# Altium footprint library Relay_THT.PcbLib: 117 footprints (part 1 of 8)
Each footprint in its own frame and in the unit in brackets; x right, y up, seen from the top. Pads: shape width x height; smd on the part's side, far side on the other; paste and mask are expansions set on the pad; w line width, h text height; cw(c..) or ccw(c..) is an arc to the next point about the centre after c.
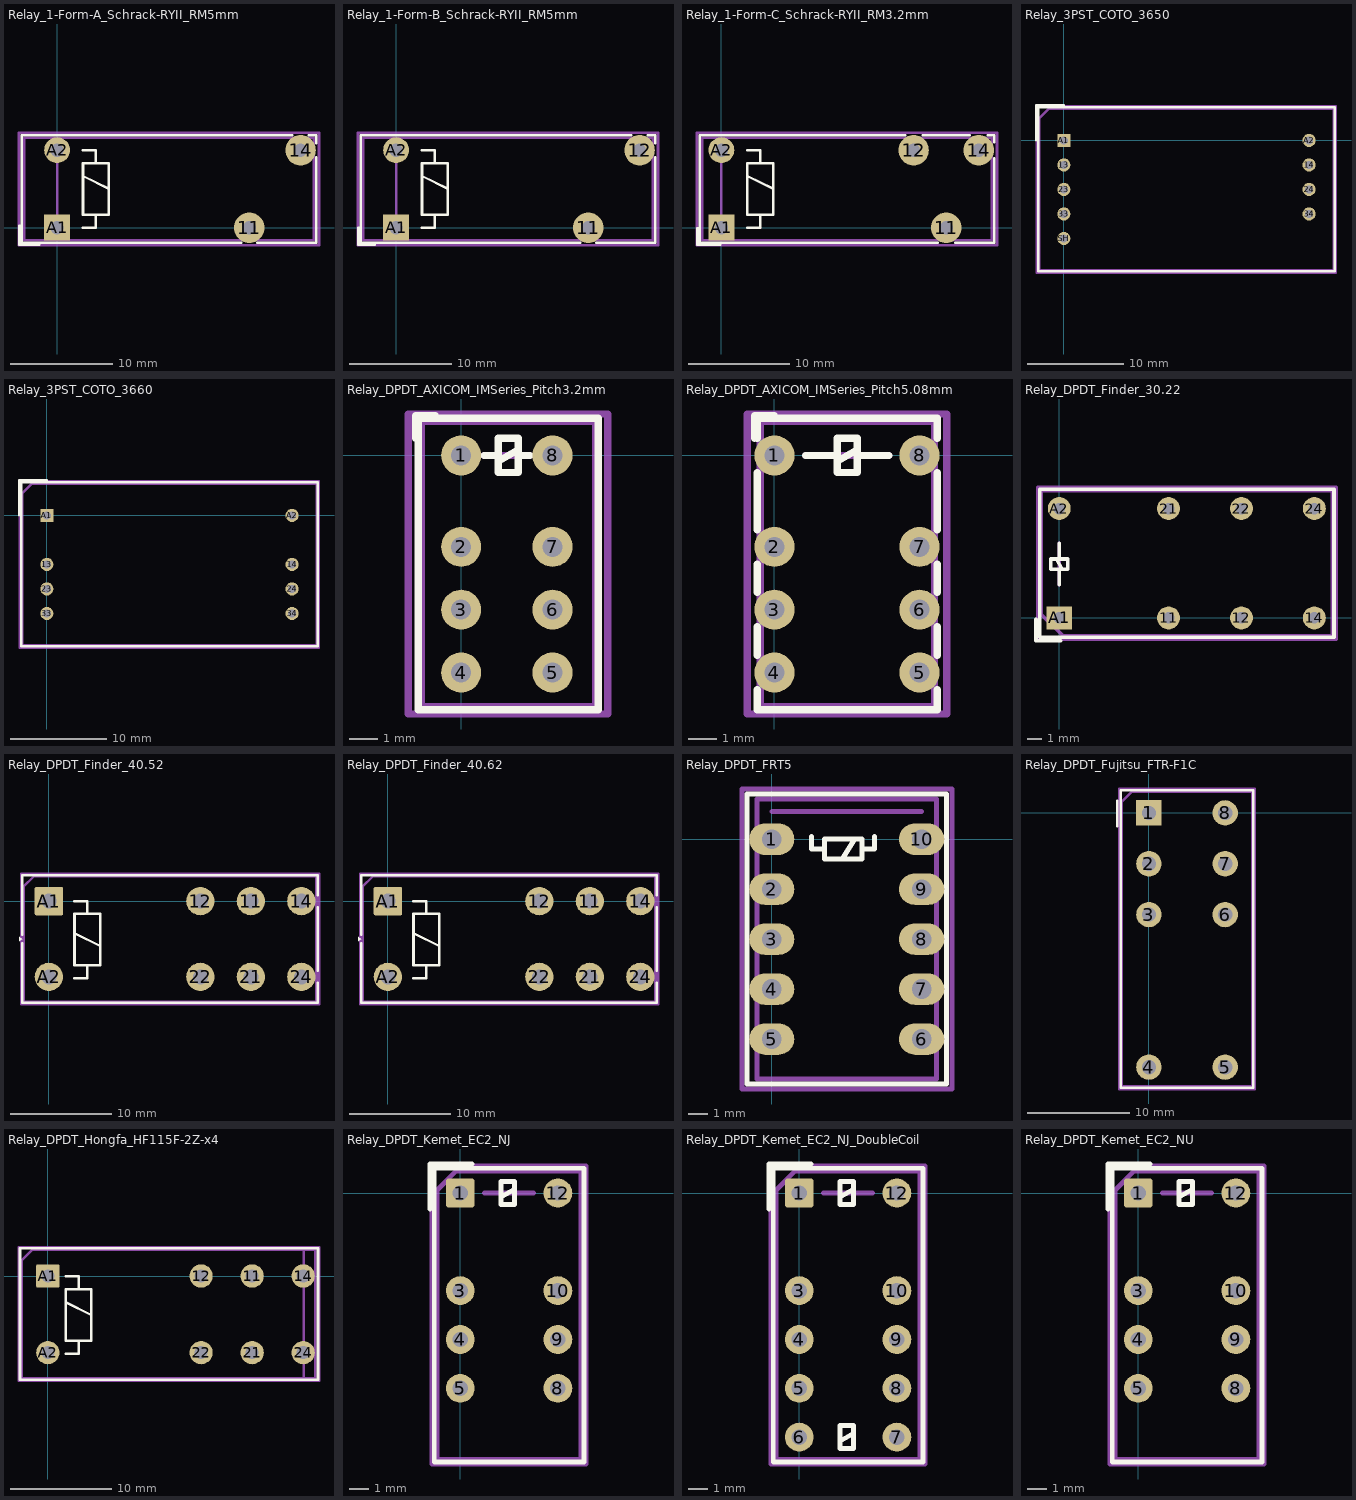
[diagram p0: the footprints below, top view; thin cyan lines are the x and y axes]

## Relay_1-Form-A_Schrack-RYII_RM5mm [mm]
pads (4):
  round 3 hole 1.3: 11(18.9,0) 14(23.94,7.62)
  rect 2.54x2.54 hole 1.3: A1(0,0)
  round 2.54 hole 1.3: A2(0,7.62)
F.SilkS:
  lines w0.254: -3.7,0.2 -3.7,-1.7 -1.75,-1.7 ; 2.54,0 3.81,0 3.81,1.27 ; 2.54,5.08 5.08,3.81 ; 2.54,7.62 3.81,7.62 3.81,6.35 ; 18.1,-1.5 -3.5,-1.5 -3.5,9.1 23.1,9.1 ; 19.7,-1.5 25.45,-1.5 ; 24.75,9.1 25.5,9.1 25.5,8.3 ; 25.5,-1.5 25.5,6.9 ; 3.81,6.35 2.54,6.35 2.54,1.27 5.08,1.27 5.08,6.35 3.81,6.35
F.Fab:
  lines w0.254: 0,1.2 0,6.4 ; -3.25,-1.25 -3.25,8.85 25.25,8.85 25.25,-1.25 -3.25,-1.25
  text "'.Designator'" at 6.953,2.96 h1
F.CrtYd:
  lines w0.254: -3.75,-1.75 -3.75,9.35 25.75,9.35 25.75,-1.75 -3.75,-1.75
3D body "Relay_1-Form-A_Schrack-RYII_RM5mm.step": height 12.3, standoff -5.3, extent -3.25,-1.24 25.25,8.86

## Relay_1-Form-B_Schrack-RYII_RM5mm [mm]
pads (4):
  round 3 hole 1.3: 11(18.9,0) 12(23.94,7.62)
  rect 2.54x2.54 hole 1.3: A1(0,0)
  round 2.54 hole 1.3: A2(0,7.62)
F.SilkS:
  lines w0.254: -3.7,0 -3.7,-1.7 -2.1,-1.7 ; 2.54,0 3.81,0 3.81,1.27 ; 2.54,5.08 5.08,3.81 ; 2.54,7.62 3.81,7.62 3.81,6.35 ; 18.1,-1.5 -3.5,-1.5 -3.5,9.1 23.1,9.1 ; 19.7,-1.5 25.45,-1.5 ; 24.75,9.1 25.5,9.1 25.5,8.3 ; 25.5,-1.5 25.5,6.9 ; 3.81,6.35 2.54,6.35 2.54,1.27 5.08,1.27 5.08,6.35 3.81,6.35
F.Fab:
  lines w0.254: 0,1.2 0,6.4 ; -3.25,-1.25 -3.25,8.85 25.25,8.85 25.25,-1.25 -3.25,-1.25
  text "'.Designator'" at 6.953,2.96 h1
F.CrtYd:
  lines w0.254: -3.75,-1.75 -3.75,9.35 25.75,9.35 25.75,-1.75 -3.75,-1.75
3D body "Relay_1-Form-B_Schrack-RYII_RM5mm.step": height 12.3, standoff -5.3, extent -3.25,-1.24 25.25,8.86

## Relay_1-Form-C_Schrack-RYII_RM3.2mm [mm]
pads (5):
  round 3 hole 1.3: 11(22.1,0) 12(18.9,7.62) 14(25.3,7.62)
  rect 2.54x2.54 hole 1.3: A1(0,0)
  round 2.54 hole 1.3: A2(0,7.62)
F.SilkS:
  lines w0.254: -2.35,-0.05 -2.35,-1.7 -0.1,-1.7 ; 2.54,0 3.81,0 3.81,1.27 ; 2.54,5.08 5.08,3.81 ; 2.54,7.62 3.81,7.62 3.81,6.35 ; 18.05,9.1 -2.15,9.1 -2.15,-1.5 21.25,-1.5 ; 19.8,9.1 24.4,9.1 ; 23,-1.5 26.85,-1.5 26.85,6.8 ; 26.2,9.1 26.85,9.1 26.85,8.4 ; 3.81,6.35 2.54,6.35 2.54,1.27 5.08,1.27 5.08,6.35 3.81,6.35
F.Fab:
  lines w0.254: 0,1.2 0,6.4 ; -1.9,-1.25 -1.9,8.85 26.6,8.85 26.6,-1.25 -1.9,-1.25
  text "'.Designator'" at 8.303,2.96 h1
F.CrtYd:
  lines w0.254: -2.4,-1.75 -2.4,9.35 27.1,9.35 27.1,-1.75 -2.4,-1.75
3D body "Relay_1-Form-C_Schrack-RYII_RM3.2mm.step": height 12.3, standoff -5.3, extent -1.9,-1.24 26.6,8.86

## Relay_3PST_COTO_3650 [mm]
pads (9):
  round 1.36 hole 0.86: 13(0,-2.54) 14(25.4,-2.54) 23(0,-5.08) 24(25.4,-5.08) 33(0,-7.62) 34(25.4,-7.62) A2(25.4,0) SH(0,-10.16)
  rect 1.36x1.36 hole 0.86: A1(0,0)
F.SilkS:
  lines w0.254: -2.89,0 -2.89,3.652 0,3.652 ; -2.65,-13.572 -2.65,3.412 28.05,3.412 28.05,-13.572 -2.65,-13.572
F.Fab:
  lines w0.254: -2.54,-13.462 -2.54,2.302 -1.54,3.302 27.94,3.302 27.94,-13.462 -2.54,-13.462
  text "'.Designator'" at 8.653,-6.555 h1
F.CrtYd:
  lines w0.254: -2.79,-13.72 -2.79,3.56 28.19,3.56 28.19,-13.72 -2.79,-13.72
3D body "Relay_3PST_COTO_3650.step": height 12.06, standoff -2.92, extent -2.54,-13.462 27.94,3.302

## Relay_3PST_COTO_3660 [mm]
pads (8):
  round 1.36 hole 0.86: 13(0,-5.08) 14(25.4,-5.08) 23(0,-7.62) 24(25.4,-7.62) 33(0,-10.16) 34(25.4,-10.16) A2(25.4,0)
  rect 1.36x1.36 hole 0.86: A1(0,0)
F.SilkS:
  lines w0.254: -2.89,0 -2.89,3.652 0,3.652 ; -2.65,-13.572 -2.65,3.412 28.05,3.412 28.05,-13.572 -2.65,-13.572
F.Fab:
  lines w0.254: -2.54,-13.462 -2.54,2.302 -1.54,3.302 27.94,3.302 27.94,-13.462 -2.54,-13.462
  text "'.Designator'" at 8.653,-6.555 h1
F.CrtYd:
  lines w0.254: -2.79,-13.72 -2.79,3.56 28.19,3.56 28.19,-13.72 -2.79,-13.72
3D body "Relay_3PST_COTO_3660.step": height 12.06, standoff -2.92, extent -2.54,-13.462 27.94,3.302

## Relay_DPDT_AXICOM_IMSeries_Pitch3.2mm [mm]
pads (8):
  round 1.4 hole 0.7: 1(0,0) 2(0,-3.2) 3(0,-5.4) 4(0,-7.6) 5(3.2,-7.6) 6(3.2,-5.4) 7(3.2,-3.2) 8(3.2,0)
F.SilkS:
  lines w0.254: -1.6,0.6 -1.6,1.4 -0.9,1.4 ; 0.8,0 1.3,0 ; 1.3,-0.2 2,0.2 ; 2,0 2.4,0 ; -1.5,-8.9 4.8,-8.9 4.8,1.3 -1.5,1.3 -1.5,-8.9 ; 1.3,-0.6 2,-0.6 2,0.6 1.3,0.6 1.3,-0.6
F.Fab:
  lines w0.254: 0.8,0 2.4,0 ; -1.4,-8.8 4.7,-8.8 4.7,1.2 -1.4,1.2 -1.4,-8.8
  text "'.Designator'" at 2.44,-8.047 h1
F.CrtYd:
  lines w0.254: -1.85,-9.05 5.13,-9.05 5.13,1.45 -1.85,1.45 -1.85,-9.05

## Relay_DPDT_AXICOM_IMSeries_Pitch5.08mm [mm]
pads (8):
  round 1.4 hole 0.7: 1(0,0) 2(0,-3.2) 3(0,-5.4) 4(0,-7.6) 5(5.08,-7.6) 6(5.08,-5.4) 7(5.08,-3.2) 8(5.08,0)
F.SilkS:
  lines w0.254: -0.7,0.6 -0.7,1.4 0,1.4 ; -0.6,-8.2 -0.6,-8.9 5.7,-8.9 5.7,-8.2 ; -0.6,-7 -0.6,-6 ; -0.6,-4.8 -0.6,-3.8 ; -0.6,-2.6 -0.6,-0.6 ; -0.6,0.6 -0.6,1.3 5.7,1.3 5.7,0.6 ; 1.1,0 2.2,0 ; 2.2,-0.2 2.9,0.2 ; 2.9,0 4,0 ; 5.7,-7 5.7,-6 ; 5.7,-4.8 5.7,-3.8 ; 5.7,-2.6 5.7,-0.6 ; 2.2,-0.6 2.9,-0.6 2.9,0.6 2.2,0.6 2.2,-0.6
F.Fab:
  lines w0.254: 1.1,0 4,0 ; -0.5,-8.8 5.6,-8.8 5.6,1.2 -0.5,1.2 -0.5,-8.8
  text "'.Designator'" at -1.547,-5.14 h1
F.CrtYd:
  lines w0.254: -0.95,-9.05 6.03,-9.05 6.03,1.45 -0.95,1.45 -0.95,-9.05

## Relay_DPDT_Finder_30.22 [mm]
pads (8):
  round 1.6 hole 0.8: 11(7.62,0) 12(12.7,0) 14(17.78,0) 21(7.62,7.62) 22(12.7,7.62) 24(17.78,7.62) A2(0,7.62)
  rect 1.8x1.6 hole 0.8: A1(0,0)
F.SilkS:
  lines w0.254: -1.62,-0.1 -1.62,-1.6 0.1,-1.6 ; -0.2,4.1 0.2,3.4 ; 0,2.3 0,3.4 ; 0,4.1 0,5.2 ; -1.37,-1.35 -1.37,8.97 19.15,8.97 19.15,-1.35 -1.37,-1.35 ; -0.6,3.4 -0.6,4.1 0.6,4.1 0.6,3.4 -0.6,3.4
F.Fab:
  lines w0.254: 0,2.3 0,5.2 ; -1.26,0.24 -1.26,8.86 19.04,8.86 19.04,-1.24 0.26,-1.24 -1.26,0.24
  text "'.Designator'" at 6.153,3.26 h1
F.CrtYd:
  lines w0.254: -1.51,-1.49 -1.51,9.11 19.29,9.11 19.29,-1.49 -1.51,-1.49
3D body "Relay_DPDT_Finder_30.22.step": height 11.4, standoff -3.5, extent -1.26,-1.24 19.04,8.86

## Relay_DPDT_Finder_40.52 [mm]
pads (8):
  round 2.8 hole 1.5: 11(20,0) 12(15,0) 14(25,0) 21(20,-7.5) 22(15,-7.5) 24(25,-7.5) A2(0,-7.5)
  rrect9% 2.8x2.8 hole 1.5: A1(0,0)
F.SilkS:
  region: -2.62,-3.75 -2.959,-3.95 -2.959,-3.55
  lines w0.254: -2.62,-4.15 -2.62,-10.07 26.62,-10.07 26.62,-8.1 ; -2.62,-3.35 -2.62,2.57 26.62,2.57 26.62,0.6 ; 2.54,-7.62 3.81,-7.62 3.81,-6.35 ; 2.54,-3.175 5.08,-4.445 ; 2.54,0 3.81,0 3.81,-1.27 ; 26.62,-6.9 26.62,-0.6 ; 3.81,-1.27 2.54,-1.27 2.54,-6.35 5.08,-6.35 5.08,-1.27 3.81,-1.27
F.Fab:
  lines w0.254: -2.5,-9.95 -2.5,1.45 -1.5,2.45 26.5,2.45 26.5,-9.95 -2.5,-9.95
  text "'.Designator'" at 7.953,-4.59 h1
F.CrtYd:
  lines w0.254: -2.75,-10.2 -2.75,2.7 26.75,2.7 26.75,-10.2 -2.75,-10.2
3D body "Relay_DPDT_Finder_40.52.step": height 25, standoff -5.3, extent -3,-9.95 26,2.45

## Relay_DPDT_Finder_40.62 [mm]
pads (8):
  round 2.8 hole 1.5: 11(20,0) 12(15,0) 14(25,0) 21(20,-7.5) 22(15,-7.5) 24(25,-7.5) A2(0,-7.5)
  rrect9% 2.8x2.8 hole 1.5: A1(0,0)
F.SilkS:
  region: -2.62,-3.75 -2.959,-3.95 -2.959,-3.55
  lines w0.254: -2.62,-4.15 -2.62,-10.07 26.62,-10.07 26.62,-8.1 ; -2.62,-3.35 -2.62,2.57 26.62,2.57 26.62,0.6 ; 2.54,-7.62 3.81,-7.62 3.81,-6.35 ; 2.54,-3.175 5.08,-4.445 ; 2.54,0 3.81,0 3.81,-1.27 ; 26.62,-6.9 26.62,-0.6 ; 3.81,-1.27 2.54,-1.27 2.54,-6.35 5.08,-6.35 5.08,-1.27 3.81,-1.27
F.Fab:
  lines w0.254: -2.5,-9.95 -2.5,1.45 -1.5,2.45 26.5,2.45 26.5,-9.95 -2.5,-9.95
  text "'.Designator'" at 7.953,-4.59 h1
F.CrtYd:
  lines w0.254: -2.75,-10.2 -2.75,2.7 26.75,2.7 26.75,-10.2 -2.75,-10.2
3D body "Relay_DPDT_Finder_40.52.step": height 25, standoff -5.3, extent -3,-9.95 26,2.45

## Relay_DPDT_FRT5 [mm]
pads (10):
  rrect100% 2.3x1.6 hole 1: 1(0,0) 2(0,-2.54) 3(0,-5.08) 4(0,-7.62) 5(0,-10.16) 6(7.62,-10.16) 7(7.62,-7.62) 8(7.62,-5.08) 9(7.62,-2.54) 10(7.62,0)
F.SilkS:
  lines w0.254: 2.032,0.127 2.032,-0.508 2.692,-0.508 ; 3.581,-1.016 4.216,0 ; 4.597,-0.508 5.232,-0.508 5.232,0.127 ; -1.27,-12.446 -1.27,2.286 8.89,2.286 8.89,-12.446 -1.27,-12.446 ; 2.692,-1.016 2.692,0 4.597,0 4.597,-1.016 2.692,-1.016
F.Fab:
  lines w0.254: 0,1.397 7.62,1.397 ; -0.762,-12.192 -0.762,2.032 8.382,2.032 8.382,-12.192 -0.762,-12.192
  text "'.Designator'" at -0.237,-5.92 h1
F.CrtYd:
  lines w0.254: -1.5,-12.7 -1.5,2.55 9.15,2.55 9.15,-12.7 -1.5,-12.7
3D body "Relay_DPDT_FRT5.step": height 4.88, standoff -3.25, extent -0.69,-12.08 8.31,1.92

## Relay_DPDT_Fujitsu_FTR-F1C [mm]
pads (8):
  rect 2.5x2.5 hole 1.4: 1(0,0)
  round 2.5 hole 1.4: 2(0,-5) 3(0,-10) 4(0,-25) 5(7.5,-25) 6(7.5,-10) 7(7.5,-5) 8(7.5,0)
F.SilkS:
  lines w0.254: -3.1,-1.3 -3.1,1.2 ; -2.78,-27.03 -2.78,2.23 10.28,2.23 10.28,-27.03 -2.78,-27.03
F.Fab:
  lines w0.254: -2.65,-26.9 -2.65,1.1 -1.65,2.1 10.15,2.1 10.15,-26.9 -2.65,-26.9
  text "'.Designator'" at 5.685,-19.195 h1.5
F.CrtYd:
  lines w0.254: -2.9,-27.15 -2.9,2.35 10.4,2.35 10.4,-27.15 -2.9,-27.15
3D body "Relay_DPDT_Fujitsu_FTR-F1C.step": height 16.5, standoff -3.2, extent -2.65,-27 10.15,2

## Relay_DPDT_Hongfa_HF115F-2Z-x4 [mm]
pads (8):
  round 2.3 hole 1.3: 11(20.16,0) 12(15.12,0) 14(25.2,0) 21(20.16,-7.56) 22(15.12,-7.56) 24(25.2,-7.56) A2(0,-7.56)
  rrect11% 2.3x2.3 hole 1.3: A1(0,0)
F.SilkS:
  lines w0.254: -2.75,-10.25 26.66,-10.25 26.66,2.75 -2.75,2.75 -2.75,-10.24 ; 1.76,-7.66 3.03,-7.66 3.03,-6.39 ; 1.76,-2.58 4.3,-3.85 ; 1.76,-0.04 3.03,-0.04 3.03,-1.31 ; 3.03,-1.31 1.76,-1.31 1.76,-6.39 4.3,-6.39 4.3,-1.31 3.03,-1.31
F.Fab:
  lines w0.254: -2.6,-10.13 -2.6,1.5 ; -2.6,-10.1 26.4,-10.1 26.4,2.59 ; -2.599,1.511 -1.51,2.6 ; -1.5,2.6 26.4,2.6 ; 25.27,-10.09 25.27,2.59
  text "'.Designator'" at 7.853,-4.88 h1
F.CrtYd:
  lines w0.254: -2.85,-10.35 -2.85,2.85 26.76,2.85 26.76,-10.35 -2.85,-10.35
3D body "Relay_DPDT_Hongfa_HF115F-2Z-x4.step": height 15.8, standoff -3.4, extent -2.54,-10.16 26.46,2.54

## Relay_DPDT_Kemet_EC2_NJ [mm]
pads (8):
  rrect17% 1.5x1.5 hole 0.8: 1(0,0)
  round 1.5 hole 0.8: 3(0,-5.08) 4(0,-7.62) 5(0,-10.16) 8(5.08,-10.16) 9(5.08,-7.62) 10(5.08,-5.08) 12(5.08,0)
F.SilkS:
  lines w0.254: -1.57,-0.83 -1.57,1.51 0.62,1.51 ; -1.35,1.27 -1.35,-13.99 6.43,-13.99 6.43,1.29 -1.35,1.29 ; 2.13,-0.2 2.83,0.2 ; 2.13,-0.6 2.13,0.6 2.83,0.6 2.83,-0.6 2.13,-0.6
F.Fab:
  lines w0.254: 1.27,0 3.81,0 ; -1.21,-13.85 -1.21,0.15 -0.21,1.15 6.29,1.15 6.29,-13.85 -1.21,-13.85
  text "'.Designator'" at 3.38,-10.397 h1
F.CrtYd:
  lines w0.254: -1.46,-14.1 -1.46,1.4 6.54,1.4 6.54,-14.1 -1.46,-14.1
3D body "Relay_DPDT_Kemet_EC2_NJ.step": height 9.4, standoff -2.8, extent -1.21,-13.85 6.29,1.15

## Relay_DPDT_Kemet_EC2_NJ_DoubleCoil [mm]
pads (10):
  rrect17% 1.5x1.5 hole 0.8: 1(0,0)
  round 1.5 hole 0.8: 3(0,-5.08) 4(0,-7.62) 5(0,-10.16) 6(0,-12.7) 7(5.08,-12.7) 8(5.08,-10.16) 9(5.08,-7.62) 10(5.08,-5.08) 12(5.08,0)
F.SilkS:
  lines w0.254: -1.57,-0.83 -1.57,1.51 0.62,1.51 ; -1.35,1.27 -1.35,-13.99 6.43,-13.99 6.43,1.29 -1.35,1.29 ; 2.13,-12.9 2.83,-12.5 ; 2.13,-0.2 2.83,0.2 ; 2.13,-13.3 2.13,-12.1 2.83,-12.1 2.83,-13.3 2.13,-13.3 ; 2.13,-0.6 2.13,0.6 2.83,0.6 2.83,-0.6 2.13,-0.6
F.Fab:
  lines w0.254: 1.27,0 3.81,0 ; -1.21,-13.85 -1.21,0.15 -0.21,1.15 6.29,1.15 6.29,-13.85 -1.21,-13.85
  text "'.Designator'" at 3.38,-10.397 h1
F.CrtYd:
  lines w0.254: -1.46,-14.1 -1.46,1.4 6.54,1.4 6.54,-14.1 -1.46,-14.1
3D body "Relay_DPDT_Kemet_EC2_NJ_DoubleCoil.step": height 9.4, standoff -2.8, extent -1.21,-13.85 6.29,1.15

## Relay_DPDT_Kemet_EC2_NU [mm]
pads (8):
  rrect17% 1.5x1.5 hole 0.8: 1(0,0)
  round 1.5 hole 0.8: 3(0,-5.08) 4(0,-7.62) 5(0,-10.16) 8(5.08,-10.16) 9(5.08,-7.62) 10(5.08,-5.08) 12(5.08,0)
F.SilkS:
  lines w0.254: -1.57,-0.83 -1.57,1.51 0.62,1.51 ; -1.35,1.27 -1.35,-13.99 6.43,-13.99 6.43,1.29 -1.35,1.29 ; 2.13,-0.2 2.83,0.2 ; 2.13,-0.6 2.13,0.6 2.83,0.6 2.83,-0.6 2.13,-0.6
F.Fab:
  lines w0.254: 1.27,0 3.81,0 ; -1.21,-13.85 -1.21,0.15 -0.21,1.15 6.29,1.15 6.29,-13.85 -1.21,-13.85
  text "'.Designator'" at 3.38,-10.397 h1
F.CrtYd:
  lines w0.254: -1.46,-14.1 -1.46,1.4 6.54,1.4 6.54,-14.1 -1.46,-14.1
3D body "Relay_DPDT_Kemet_EC2_NU.step": height 9.4, standoff -3.2, extent -1.21,-13.85 6.29,1.15